# Altium footprint library srn_2_400x400x180.PcbLib: 1 footprints
Each footprint in its own frame and in the unit in brackets; x right, y up, seen from the top. Pads: shape width x height; smd on the part's side, far side on the other; paste and mask are expansions set on the pad; w line width, h text height; cw(c..) or ccw(c..) is an arc to the next point about the centre after c.
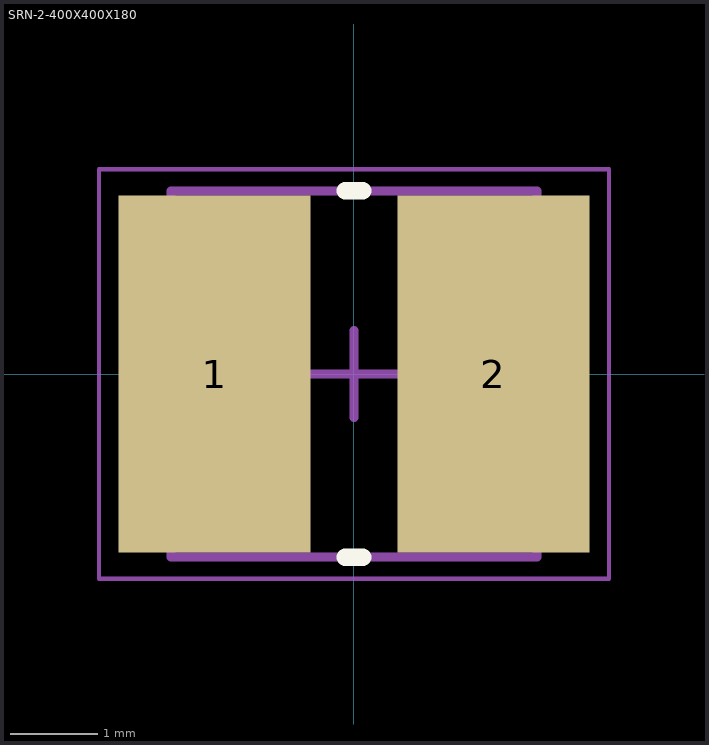
[diagram p0: the footprint, top view; thin cyan lines are the x and y axes]

## SRN-2-400X400X180 [mm] "Precision Wire Wound Inductor, 2-Leads, Body 4,00x4,00mm, IPC Medium Density"
height 1.8
pads (2):
  rect 2.2x4.1 smd: 1(-1.6,0) 2(1.6,0)
Top Overlay:
  lines w0.2: -0.1,-2.1 0.1,-2.1 ; -0.1,2.1 0.1,2.1
Top Comment:
  text ".Comment" at 1,2.7 h1.2
Top Designator:
  text ".Designator" at -0.5,2.7 h1.2
Top Component Outline:
  lines w0.1: -2.1,-2.1 2.1,-2.1 2.1,2.1 -2.1,2.1 -2.1,-2.1
Top Courtyard (Mech15):
  lines w0.05: -2.925,-2.35 2.925,-2.35 2.925,2.35 -2.925,2.35 -2.925,-2.35
  lines w0.1: -0.5,0 0.5,0 ; 0,-0.5 0,0.5
3D body "SRN4018.STEP": height 1.8, standoff 0, extent -2.2,-2 2.2,2